# Altium footprint library SnapEDApcb.PcbLib: 1 footprints
Each footprint in its own frame and in the unit in brackets; x right, y up, seen from the top. Pads: shape width x height; smd on the part's side, far side on the other; paste and mask are expansions set on the pad; w line width, h text height; cw(c..) or ccw(c..) is an arc to the next point about the centre after c.
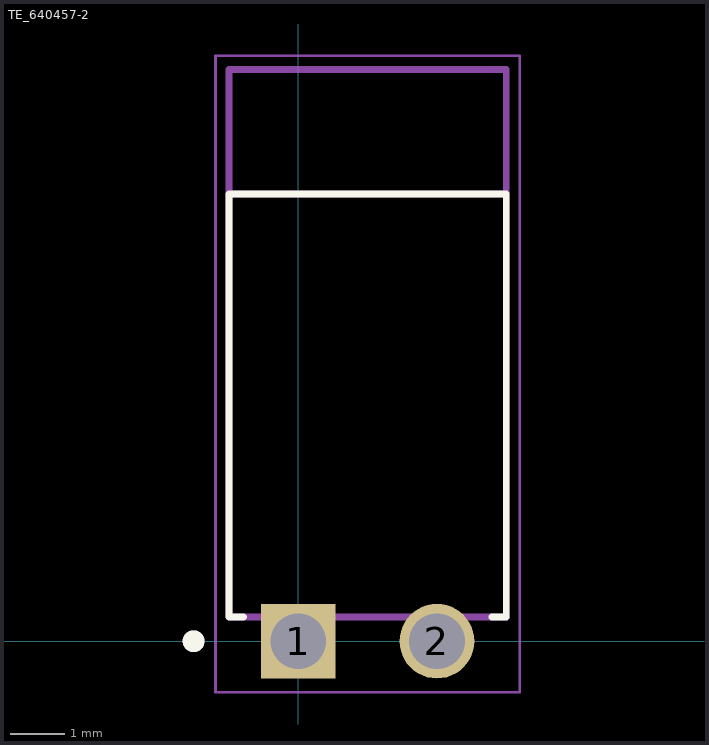
[diagram p0: the footprint, top view; thin cyan lines are the x and y axes]

## TE_640457-2 [mm]
pads (2):
  rect 1.37x1.37 hole 1.02: 1(0,0)
  round 1.37 hole 1.02: 2(2.54,0)
Top Overlay:
  circle w0.2: c-1.92,0 r0.1
  lines w0.127: -1.005,0.445 -1.27,0.445 -1.27,8.191 3.81,8.191 3.81,0.445 3.545,0.445
Mechanical 13:
  circle w0.2: c-1.92,0 r0.1
  lines w0.127: -1.27,0.445 -1.27,8.191 3.81,8.191 3.81,0.445 ; -1.27,0.445 3.81,0.445 ; -1.27,0.445 -1.27,10.477 3.81,10.477 3.81,0.445
Mechanical 15:
  lines w0.05: -1.52,-0.935 -1.52,10.727 4.06,10.727 4.06,-0.935 -1.52,-0.935